# Altium footprint library L30.PcbLib: 8 footprints
Each footprint in its own frame and in the unit in brackets; x right, y up, seen from the top. Pads: shape width x height; smd on the part's side, far side on the other; paste and mask are expansions set on the pad; w line width, h text height; cw(c..) or ccw(c..) is an arc to the next point about the centre after c.
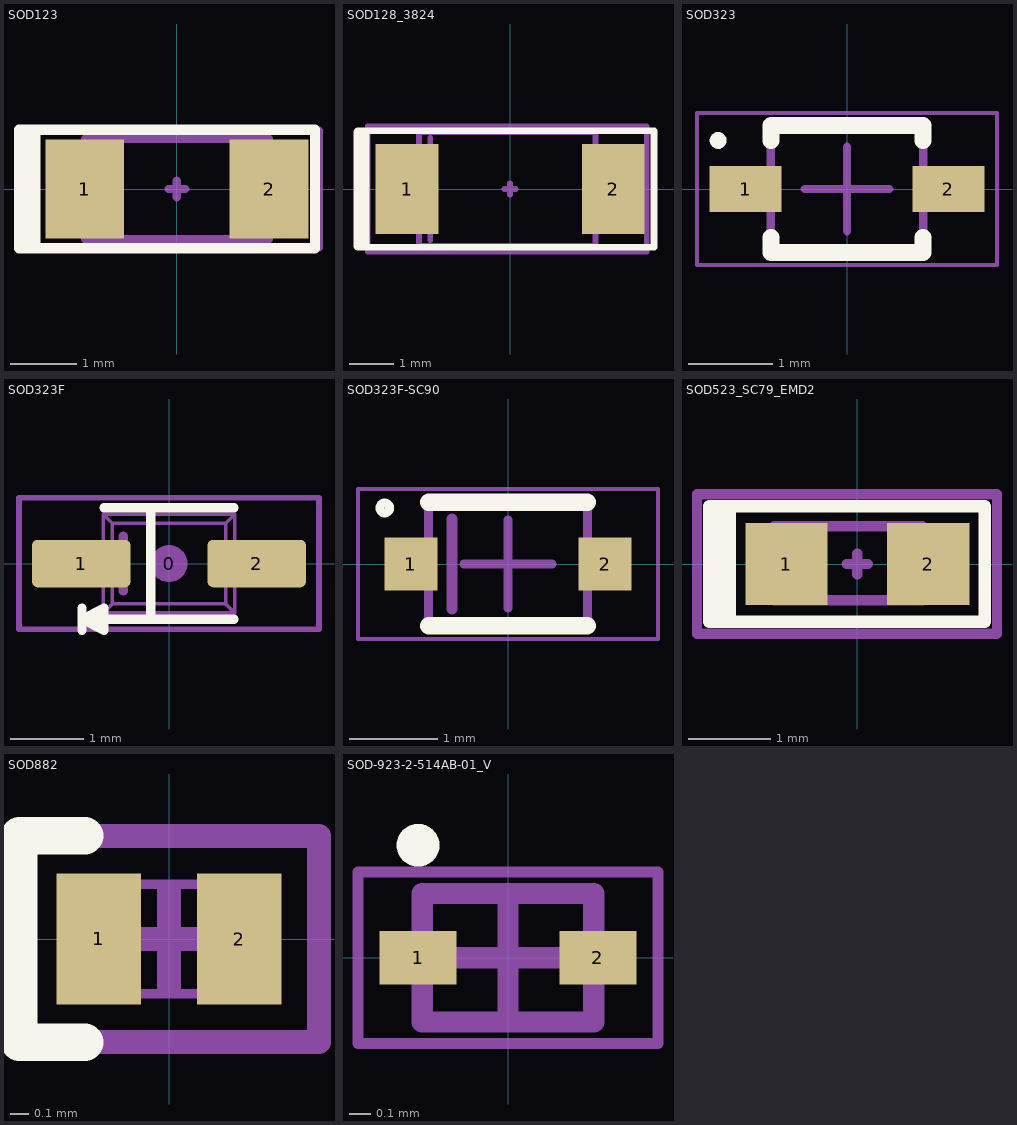
[diagram p0: the footprints below, top view; thin cyan lines are the x and y axes]

## SOD123 [mm]
pads (2):
  rect 1.2x1.5 smd: 1(-1.4,0) 2(1.4,0)
Top Overlay:
  lines w0.152: -2.267,-0.889 -2.267,0.889 ; -2.149,-0.9 -2.149,0.9 ; -2.399,-0.9 -2.399,0.9 2.1,0.9 2.1,-0.9 -2.399,-0.9
Mechanical 13:
  lines w0.127: -1.143,-0.635 -1.143,0.635 ; -1.397,-0.762 -1.397,0 -1.397,0.762 1.397,0.762 1.397,-0.762 -1.397,-0.762
Mechanical 15:
  lines w0.127: -0.127,0 0.127,0 ; 0,-0.127 0,0.127 ; -2.159,-0.889 2.159,-0.889 2.159,0.889 -2.159,0.889 -2.159,-0.889
Mechanical 17:
  text "'.Designator'" at -1.524,-0.508 h0.38
Mechanical 19:
  text "'.Comment'" at -1.524,-0.508 h0.38
3D body "CircuitWorks-SOD123.step": height 1.27, standoff 0, extent -1.857,-0.813 1.843,0.787

## SOD128_3824 [mm]
pads (2):
  rect 1.4x2 smd: 1(-2.3,0) 2(2.3,0)
Top Overlay:
  lines w0.152: -3.393,-1.3 3.214,-1.3 ; -3.393,1.3 3.214,1.3 ; 3.212,-1.295 3.212,1.295
  lines w0.203: -3.392,-1.27 -3.392,1.27 ; -3.24,-1.27 -3.24,1.27
Mechanical 13:
  lines w0.127: -1.778,-1.143 -1.778,1.143 ; -2.032,-1.27 -2.032,-0.127 -2.032,1.27 1.905,1.27 1.905,-1.27 -2.032,-1.27
Mechanical 15:
  lines w0.127: -0.127,0 0.127,0 ; 0,-0.127 0,0.127 ; -3.175,-1.397 3.048,-1.397 3.048,1.397 -3.175,1.397 -3.175,-1.397
Mechanical 17:
  text "'.Designator'" at -1.524,-1.016 h0.38
Mechanical 19:
  text "'.Comment'" at -1.524,-1.016 h0.38
3D body "User Library-SOD128.step": height 1.1, standoff -0.01, extent -2.478,-1.372 2.522,1.328

## SOD323 [mm]
height 1.15
pads (2):
  rect 0.85x0.55 smd: 1(-1.2,0) 2(1.2,0)
Top Overlay:
  circle w0.1: c-1.525,0.575 r0.05
  lines w0.2: -0.9,-0.575 -0.9,-0.75 0.9,-0.75 0.9,-0.575 ; -0.9,0.575 -0.9,0.75 0.9,0.75 0.9,0.575
Mechanical 2:
  lines w0.1: -0.9,-0.725 0.9,-0.725 0.9,0.725 -0.9,0.725 -0.9,-0.725
Mechanical 4:
  lines w0.05: -1.775,-0.9 1.775,-0.9 1.775,0.9 -1.775,0.9 -1.775,-0.9
  lines w0.1: -0.5,0 0.5,0 ; 0,-0.5 0,0.5
3D body: height 1.15, standoff 0, extent -0.9,-0.725 0.9,0.725

## SOD323F [mm]
pads (3):
  round 0.508 on Mech4: 0(0,0)
  rrect25% 1.35x0.65 smd: 1(-1.2,0) 2(1.2,0)
Top Overlay:
  lines w0.127: -1.189,-0.912 -1.189,-0.612 ; -0.889,0.762 0.889,0.762 ; -0.25,-0.762 -0.25,0.762 ; 0.889,-0.762 -0.889,-0.762 -1.189,-0.762 ; -1.189,-0.762 -0.889,-0.612 -0.889,-0.912 -1.189,-0.762
Mechanical 2:
  lines w0.05: -0.9,-0.2 -1.25,-0.2 -1.25,0.2 -0.9,0.2 ; 0.9,-0.2 1.25,-0.2 1.25,0.2 0.9,0.2 ; -0.9,-0.675 0.9,-0.675 ; -0.9,-0.675 -0.9,0.675 ; -0.9,-0.675 -0.776,-0.551 ; -0.9,0.675 0.9,0.675 ; -0.9,0.675 -0.776,0.551 ; -0.776,-0.551 0.776,-0.551 ; -0.776,-0.551 -0.776,0.551 ; -0.776,0.551 0.776,0.551 ; 0.776,-0.551 0.776,0.551 ; 0.776,-0.551 0.9,-0.675 ; 0.776,0.551 0.9,0.675 ; 0.9,-0.675 0.9,0.675
  lines w0.127: -0.625,-0.375 -0.625,0.375
Mechanical 4:
  lines w0.076: -2.05,-0.9 2.05,-0.9 2.05,0.9 -2.05,0.9 -2.05,-0.9
3D body "SOD323F.STEP": height 1, standoff 0, extent -1.25,-0.675 1.25,0.675

## SOD323F-SC90 [mm] "SOD323F-SC90"
height 0.8
pads (2):
  rect 0.6x0.6 smd: 1(-1.1,0) 2(1.1,0)
Top Overlay:
  circle w0.1: c-1.397,0.635 r0.056
  lines w0.2: -0.9,-0.7 0.9,-0.7 ; -0.9,0.7 0.9,0.7
Mechanical 13:
  lines w0.1: -0.9,-0.675 -0.9,0.675 0.9,0.675 0.9,-0.675 -0.9,-0.675
  lines w0.127: -0.635,-0.508 -0.635,0.508
Mechanical 15:
  lines w0.05: -1.7,-0.85 -1.7,0.85 1.7,0.85 1.7,-0.85 -1.7,-0.85
  lines w0.1: -0.5,0 0.5,0 ; 0,-0.5 0,0.5
Mechanical 17:
  text "'.Designator'" at -1.016,-0.508 h0.25
Mechanical 19:
  text "'.Comment'" at -1.016,-0.508 h0.25
3D body "User Library-SOD323F-1.step": height 1, standoff 0, extent -1.25,-0.675 1.25,0.675

## SOD523_SC79_EMD2 [mm]
pads (2):
  rect 1x1 smd: 1(-0.862,0) 2(0.862,0)
Top Overlay:
  lines w0.152: -1.675,-0.7 -1.675,0.7 ; -1.55,-0.7 -1.55,0.7 ; -1.8,-0.7 -1.8,0.7 1.55,0.7 1.55,-0.7 -1.8,-0.7
Mechanical 2:
  lines w0.127: -1.011,-0.442 -1.011,0.457 0.789,0.457 0.789,-0.442 -1.011,-0.442
Mechanical 6:
  lines w0.127: -0.127,0 0.127,0 ; 0,-0.127 0,0.127 ; -1.95,-0.85 -1.95,0.85 1.7,0.85 1.7,-0.85 -1.95,-0.85
3D body "User Library-SOD-523_SCD80_SC-79.step": height 0.77, standoff -0.03, extent -1.011,-0.442 0.789,0.457

## SOD882 [mm] "SOD882"
pads (2):
  rect 0.45x0.7 smd: 1(-0.375,0) 2(0.375,0)
Top Overlay:
  lines w0.2: -0.45,-0.55 -0.8,-0.55 -0.8,0.55 -0.45,0.55
Mechanical 2:
  lines w0.051: -0.492,-0.292 -0.492,0.293 0.492,0.293 0.492,-0.292 -0.492,-0.292
Mechanical 4:
  lines w0.127: -0.254,0 0.254,0 ; 0,-0.254 0,0.254 ; -0.8,-0.55 -0.8,0.55 0.8,0.55 0.8,-0.55 -0.8,-0.55
3D body "User Library-SOD882-1.step": height -0.04, standoff -0.55, extent -0.5,-0.292 0.485,0.293

## SOD-923-2-514AB-01_V [mm] "SOD, 2-Leads, Body 0.8x0.6mm"
height 0.4
pads (2):
  rect 0.36x0.25 smd: 1(-0.42,0) 2(0.42,0)
Top Overlay:
  circle w0.1: c-0.42,0.525 r0.05
Mechanical 13:
  lines w0.1: -0.4,-0.3 0.4,-0.3 0.4,0.3 -0.4,0.3 -0.4,-0.3
Mechanical 15:
  lines w0.05: -0.7,-0.4 0.7,-0.4 0.7,0.4 -0.7,0.4 -0.7,-0.4
  lines w0.1: -0.25,0 0.25,0 ; 0,-0.25 0,0.25
3D body: height 0.4, standoff 0, extent -0.4,-0.3 0.4,0.3